# Altium footprint library FUSE_3587-10TR.PcbLib: 1 footprints
Each footprint in its own frame and in the unit in brackets; x right, y up, seen from the top. Pads: shape width x height; smd on the part's side, far side on the other; paste and mask are expansions set on the pad; w line width, h text height; cw(c..) or ccw(c..) is an arc to the next point about the centre after c.
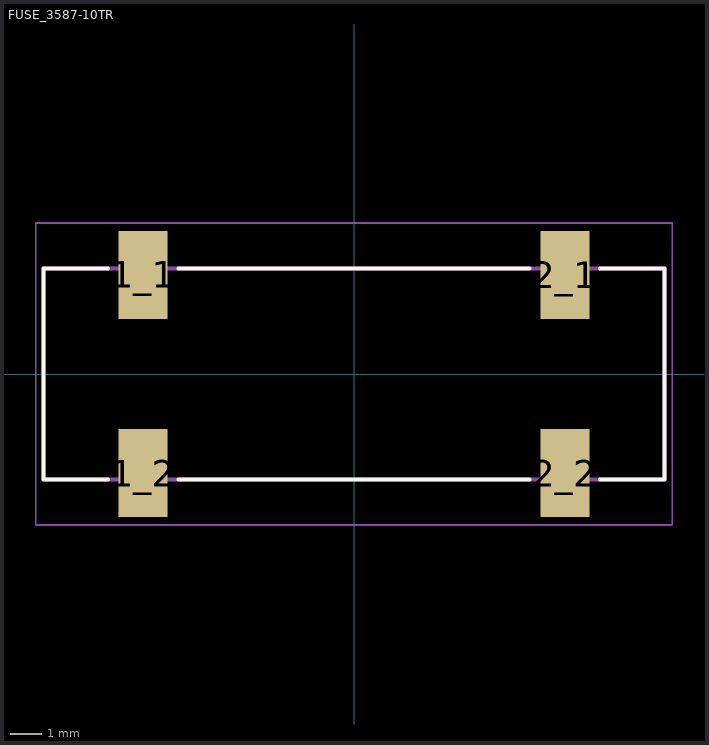
[diagram p0: the footprint, top view; thin cyan lines are the x and y axes]

## FUSE_3587-10TR [mm]
height 8.37
pads (4):
  rect 1.57x2.82 smd: 1_1(-6.73,3.16) 1_2(-6.73,-3.16) 2_1(6.73,3.16) 2_2(6.73,-3.16)
Top Overlay:
  lines w0.127: -7.85,-3.365 -9.905,-3.365 -9.905,3.365 -7.85,3.365 ; -5.6,-3.365 5.6,-3.365 ; -5.6,3.365 5.6,3.365 ; 7.85,-3.365 9.905,-3.365 9.905,3.365 7.85,3.365
Mechanical 13:
  lines w0.127: -9.905,-3.365 9.905,-3.365 9.905,3.365 -9.905,3.365 -9.905,-3.365
Mechanical 15:
  lines w0.05: -10.155,-4.82 10.155,-4.82 10.155,4.82 -10.155,4.82 -10.155,-4.82